# Altium schematic symbol library MOS-FET.SchLib: 1 symbol
Pins are listed as number, name and electrical type; pins without a type are passive.

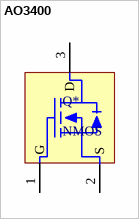
[diagram p0: symbol AO3400]

## AO3400
designator Q*, comment NMOS
AO3400 N-MOS
footprint SOT23-3
pins: 1 G, 2 S, 3 D